# EAGLE library part 1250-LPC1114FBD48/301:1 (library CircuitHub)
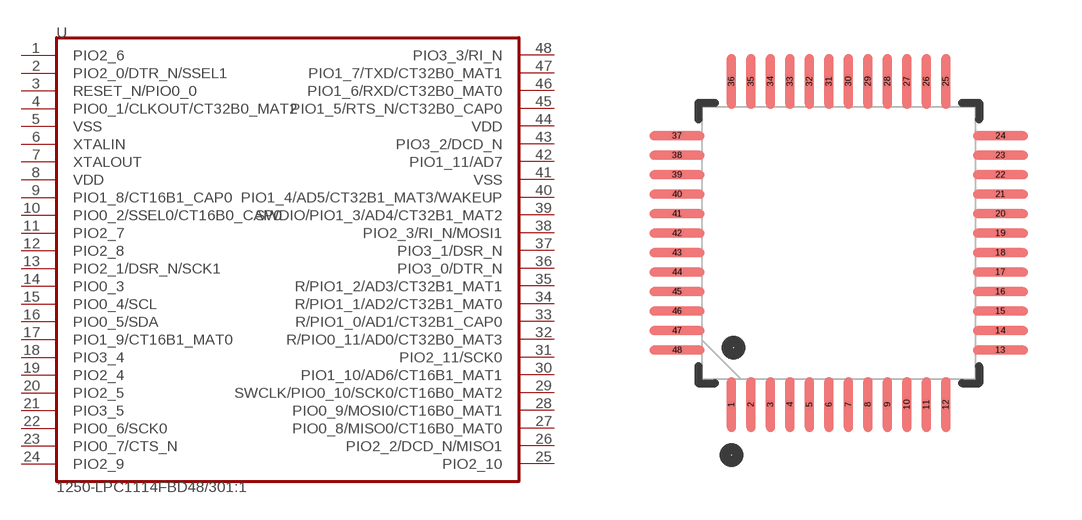
[diagram p0: symbol with the pads of melissa/dintu; footprint melissa/dintu]

Designator prefix U

## 1250-LPC1114FBD48/301:1 (CircuitHubID: 1250; URL: https://circuithub.com/parts/NXP/LPC1114FBD48%2F301%3A1; footprintRevision: 80f05cb86d9e67aacf426a027030eab4869b28e1; footprintURN: melissa/dintu; symbolRevision: f39890cea87cd470adc4ded07d9388108b1eae48; symbolURN: bittenbybytes/dlg86)  [melissa/dintu]
1  PIO2_6  in
2  PIO2_0/DTR_N/SSEL1  in
3  RESET_N/PIO0_0  in
4  PIO0_1/CLKOUT/CT32B0_MAT2  in
5  VSS  in
6  XTALIN  in
7  XTALOUT  in
8  VDD  in
9  PIO1_8/CT16B1_CAP0  in
10  PIO0_2/SSEL0/CT16B0_CAP0  in
11  PIO2_7  in
12  PIO2_8  in
13  PIO2_1/DSR_N/SCK1  in
14  PIO0_3  in
15  PIO0_4/SCL  in
16  PIO0_5/SDA  in
17  PIO1_9/CT16B1_MAT0  in
18  PIO3_4  in
19  PIO2_4  in
20  PIO2_5  in
21  PIO3_5  in
22  PIO0_6/SCK0  in
23  PIO0_7/CTS_N  in
24  PIO2_9  in
25  PIO2_10  in
26  PIO2_2/DCD_N/MISO1  in
27  PIO0_8/MISO0/CT16B0_MAT0  in
28  PIO0_9/MOSI0/CT16B0_MAT1  in
29  SWCLK/PIO0_10/SCK0/CT16B0_MAT2  in
30  PIO1_10/AD6/CT16B1_MAT1  in
31  PIO2_11/SCK0  in
32  R/PIO0_11/AD0/CT32B0_MAT3  in
33  R/PIO1_0/AD1/CT32B1_CAP0  in
34  R/PIO1_1/AD2/CT32B1_MAT0  in
35  R/PIO1_2/AD3/CT32B1_MAT1  in
36  PIO3_0/DTR_N  in
37  PIO3_1/DSR_N  in
38  PIO2_3/RI_N/MOSI1  in
39  SWDIO/PIO1_3/AD4/CT32B1_MAT2  in
40  PIO1_4/AD5/CT32B1_MAT3/WAKEUP  in
41  VSS  in
42  PIO1_11/AD7  in
43  PIO3_2/DCD_N  in
44  VDD  in
45  PIO1_5/RTS_N/CT32B0_CAP0  in
46  PIO1_6/RXD/CT32B0_MAT0  in
47  PIO1_7/TXD/CT32B0_MAT1  in
48  PIO3_3/RI_N  in

## Footprint melissa/dintu (pad centres in mm)
smd 0.23 x 1.406: 1 -2.75,-4.147; 2 -2.25,-4.147; 3 -1.75,-4.147; 4 -1.25,-4.147; 5 -0.75,-4.147; 6 -0.25,-4.147; 7 0.25,-4.147; 8 0.75,-4.147; 9 1.25,-4.147; 10 1.75,-4.147; 11 2.25,-4.147; 12 2.75,-4.147; 25 2.75,4.147; 26 2.25,4.147; 27 1.75,4.147; 28 1.25,4.147; 29 0.75,4.147; 30 0.25,4.147; 31 -0.25,4.147; 32 -0.75,4.147; 33 -1.25,4.147; 34 -1.75,4.147; 35 -2.25,4.147; 36 -2.75,4.147
smd 1.406 x 0.23: 13 4.147,-2.75; 14 4.147,-2.25; 15 4.147,-1.75; 16 4.147,-1.25; 17 4.147,-0.75; 18 4.147,-0.25; 19 4.147,0.25; 20 4.147,0.75; 21 4.147,1.25; 22 4.147,1.75; 23 4.147,2.25; 24 4.147,2.75; 37 -4.147,2.75; 38 -4.147,2.25; 39 -4.147,1.75; 40 -4.147,1.25; 41 -4.147,0.75; 42 -4.147,0.25; 43 -4.147,-0.25; 44 -4.147,-0.75; 45 -4.147,-1.25; 46 -4.147,-1.75; 47 -4.147,-2.25; 48 -4.147,-2.75